# EAGLE library part PIC24FJ*GA010 (library Microchip)
64/80/100-Pin General Purpose, 16-Bit Flash Microcontrollers Source: http://ww1.microchip.com/downloads/en/DeviceDoc/39747d.pdf
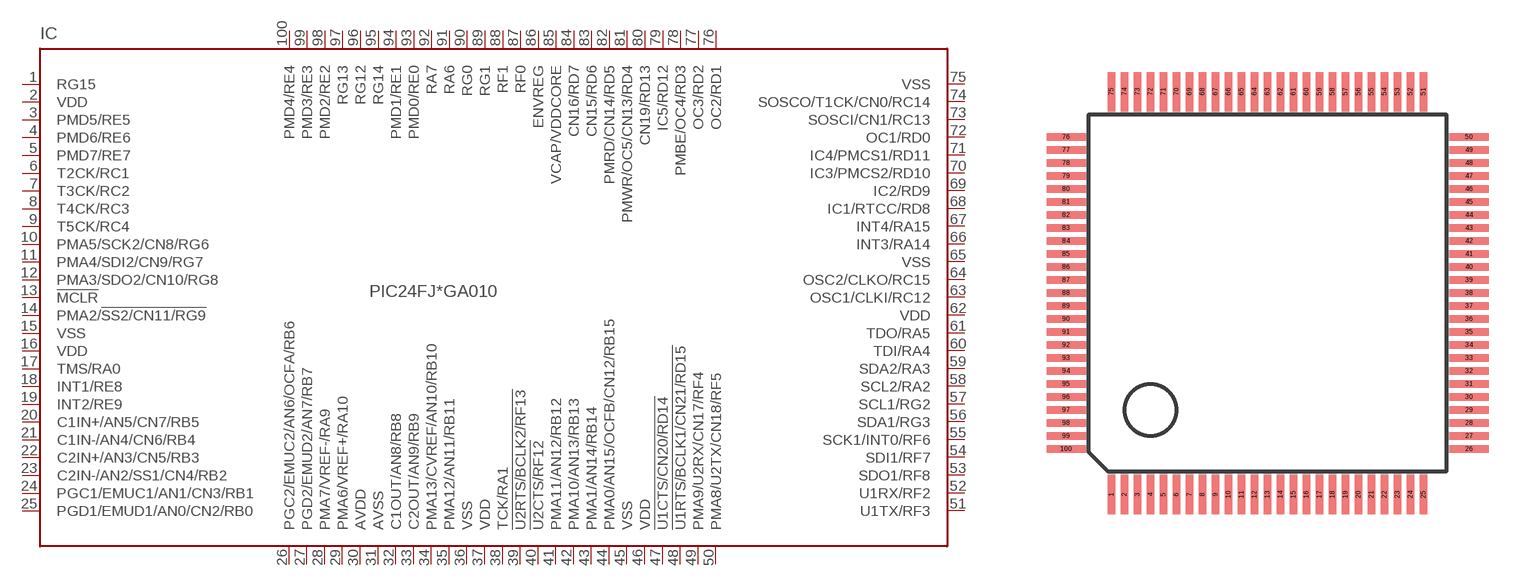
[diagram p82: symbol with the pads of TQFP100-14X14; footprint TQFP100-14X14]

Designator prefix IC

## PIC24FJ128GA010 (MPN: PIC24FJ128GA010-I/PT; OC_FARNELL: 1146522; OC_NEWARK: 56K7341), PIC24FJ64GA010 (MPN: PIC24FJ64GA010-I/PT; OC_FARNELL: 1146526; OC_NEWARK: 56K7347), PIC24FJ96GA010 (MPN: PIC24FJ96GA010-I/PT; OC_FARNELL: 1778488; OC_NEWARK: 56K7353)  [TQFP100-14X14]
1  RG15
2  VDD  pwr
3  PMD5/RE5
4  PMD6/RE6
5  PMD7/RE7
6  T2CK/RC1
7  T3CK/RC2
8  T4CK/RC3
9  T5CK/RC4
10  PMA5/SCK2/CN8/RG6
11  PMA4/SDI2/CN9/RG7
12  PMA3/SDO2/CN10/RG8
13  !MCLR
14  PMA2/!SS2/CN11/RG9
15  VSS  pwr
16  VDD  pwr
17  TMS/RA0
18  INT1/RE8
19  INT2/RE9
20  C1IN+/AN5/CN7/RB5
21  C1IN-/AN4/CN6/RB4
22  C2IN+/AN3/CN5/RB3
23  C2IN-/AN2/SS1/CN4/RB2
24  PGC1/EMUC1/AN1/CN3/RB1
25  PGD1/EMUD1/AN0/CN2/RB0
26  PGC2/EMUC2/AN6/OCFA/RB6
27  PGD2/EMUD2/AN7/RB7
28  PMA7/VREF-/RA9
29  PMA6/VREF+/RA10
30  AVDD  pwr
31  AVSS  pwr
32  C1OUT/AN8/RB8
33  C2OUT/AN9/RB9
34  PMA13/CVREF/AN10/RB10
35  PMA12/AN11/RB11
36  VSS  pwr
37  VDD  pwr
38  TCK/RA1
39  !U2RTS/BCLK2/RF13
40  !U2CTS/RF12
41  PMA11/AN12/RB12
42  PMA10/AN13/RB13
43  PMA1/AN14/RB14
44  PMA0/AN15/OCFB/CN12/RB15
45  VSS  pwr
46  VDD  pwr
47  !U1CTS/CN20/RD14
48  !U1RTS/BCLK1/CN21/RD15
49  PMA9/U2RX/CN17/RF4
50  PMA8/U2TX/CN18/RF5
51  U1TX/RF3
52  U1RX/RF2
53  SDO1/RF8
54  SDI1/RF7
55  SCK1/INT0/RF6
56  SDA1/RG3
57  SCL1/RG2
58  SCL2/RA2
59  SDA2/RA3
60  TDI/RA4
61  TDO/RA5
62  VDD  pwr
63  OSC1/CLKI/RC12
64  OSC2/CLKO/RC15
65  VSS  pwr
66  INT3/RA14
67  INT4/RA15
68  IC1/RTCC/RD8
69  IC2/RD9
70  IC3/PMCS2/RD10
71  IC4/PMCS1/RD11
72  OC1/RD0
73  SOSCI/CN1/RC13
74  SOSCO/T1CK/CN0/RC14
75  VSS  pwr
76  OC2/RD1
77  OC3/RD2
78  PMBE/OC4/RD3
79  IC5/RD12
80  CN19/RD13
81  PMWR/OC5/CN13/RD4
82  PMRD/CN14/RD5
83  CN15/RD6
84  CN16/RD7
85  VCAP/VDDCORE
86  ENVREG
87  RF0
88  RF1
89  RG1
90  RG0
91  RA6
92  RA7
93  PMD0/RE0
94  PMD1/RE1
95  RG14
96  RG12
97  RG13
98  PMD2/RE2
99  PMD3/RE3
100  PMD4/RE4

## Footprint TQFP100-14X14 (pad centres in mm)
Thin Quad Flat Pack 14x14 mm
smd 0.27 x 1.5: 1 -6,-7.75; 2 -5.5,-7.75; 3 -5,-7.75; 4 -4.5,-7.75; 5 -4,-7.75; 6 -3.5,-7.75; 7 -3,-7.75; 8 -2.5,-7.75; 9 -2,-7.75; 10 -1.5,-7.75; 11 -1,-7.75; 12 -0.5,-7.75; 13 0,-7.75; 14 0.5,-7.75; 15 1,-7.75; 16 1.5,-7.75; 17 2,-7.75; 18 2.5,-7.75; 19 3,-7.75; 20 3.5,-7.75; 21 4,-7.75; 22 4.5,-7.75; 23 5,-7.75; 24 5.5,-7.75; 25 6,-7.75; 51 6,7.75; 52 5.5,7.75; 53 5,7.75; 54 4.5,7.75; 55 4,7.75; 56 3.5,7.75; 57 3,7.75; 58 2.5,7.75; 59 2,7.75; 60 1.5,7.75; 61 1,7.75; 62 0.5,7.75; 63 0,7.75; 64 -0.5,7.75; 65 -1,7.75; 66 -1.5,7.75; 67 -2,7.75; 68 -2.5,7.75; 69 -3,7.75; 70 -3.5,7.75; 71 -4,7.75; 72 -4.5,7.75; 73 -5,7.75; 74 -5.5,7.75; 75 -6,7.75
smd 1.5 x 0.27: 26 7.75,-6; 27 7.75,-5.5; 28 7.75,-5; 29 7.75,-4.5; 30 7.75,-4; 31 7.75,-3.5; 32 7.75,-3; 33 7.75,-2.5; 34 7.75,-2; 35 7.75,-1.5; 36 7.75,-1; 37 7.75,-0.5; 38 7.75,0; 39 7.75,0.5; 40 7.75,1; 41 7.75,1.5; 42 7.75,2; 43 7.75,2.5; 44 7.75,3; 45 7.75,3.5; 46 7.75,4; 47 7.75,4.5; 48 7.75,5; 49 7.75,5.5; 50 7.75,6; 76 -7.75,6; 77 -7.75,5.5; 78 -7.75,5; 79 -7.75,4.5; 80 -7.75,4; 81 -7.75,3.5; 82 -7.75,3; 83 -7.75,2.5; 84 -7.75,2; 85 -7.75,1.5; 86 -7.75,1; 87 -7.75,0.5; 88 -7.75,0; 89 -7.75,-0.5; 90 -7.75,-1; 91 -7.75,-1.5; 92 -7.75,-2; 93 -7.75,-2.5; 94 -7.75,-3; 95 -7.75,-3.5; 96 -7.75,-4; 97 -7.75,-4.5; 98 -7.75,-5; 99 -7.75,-5.5; 100 -7.75,-6